# Altium footprint library Small Outline (~0.8mm Pitch).PcbLib: 19 footprints (part 1 of 2)
Each footprint in its own frame and in the unit in brackets; x right, y up, seen from the top. Pads: shape width x height; smd on the part's side, far side on the other; paste and mask are expansions set on the pad; w line width, h text height; cw(c..) or ccw(c..) is an arc to the next point about the centre after c.
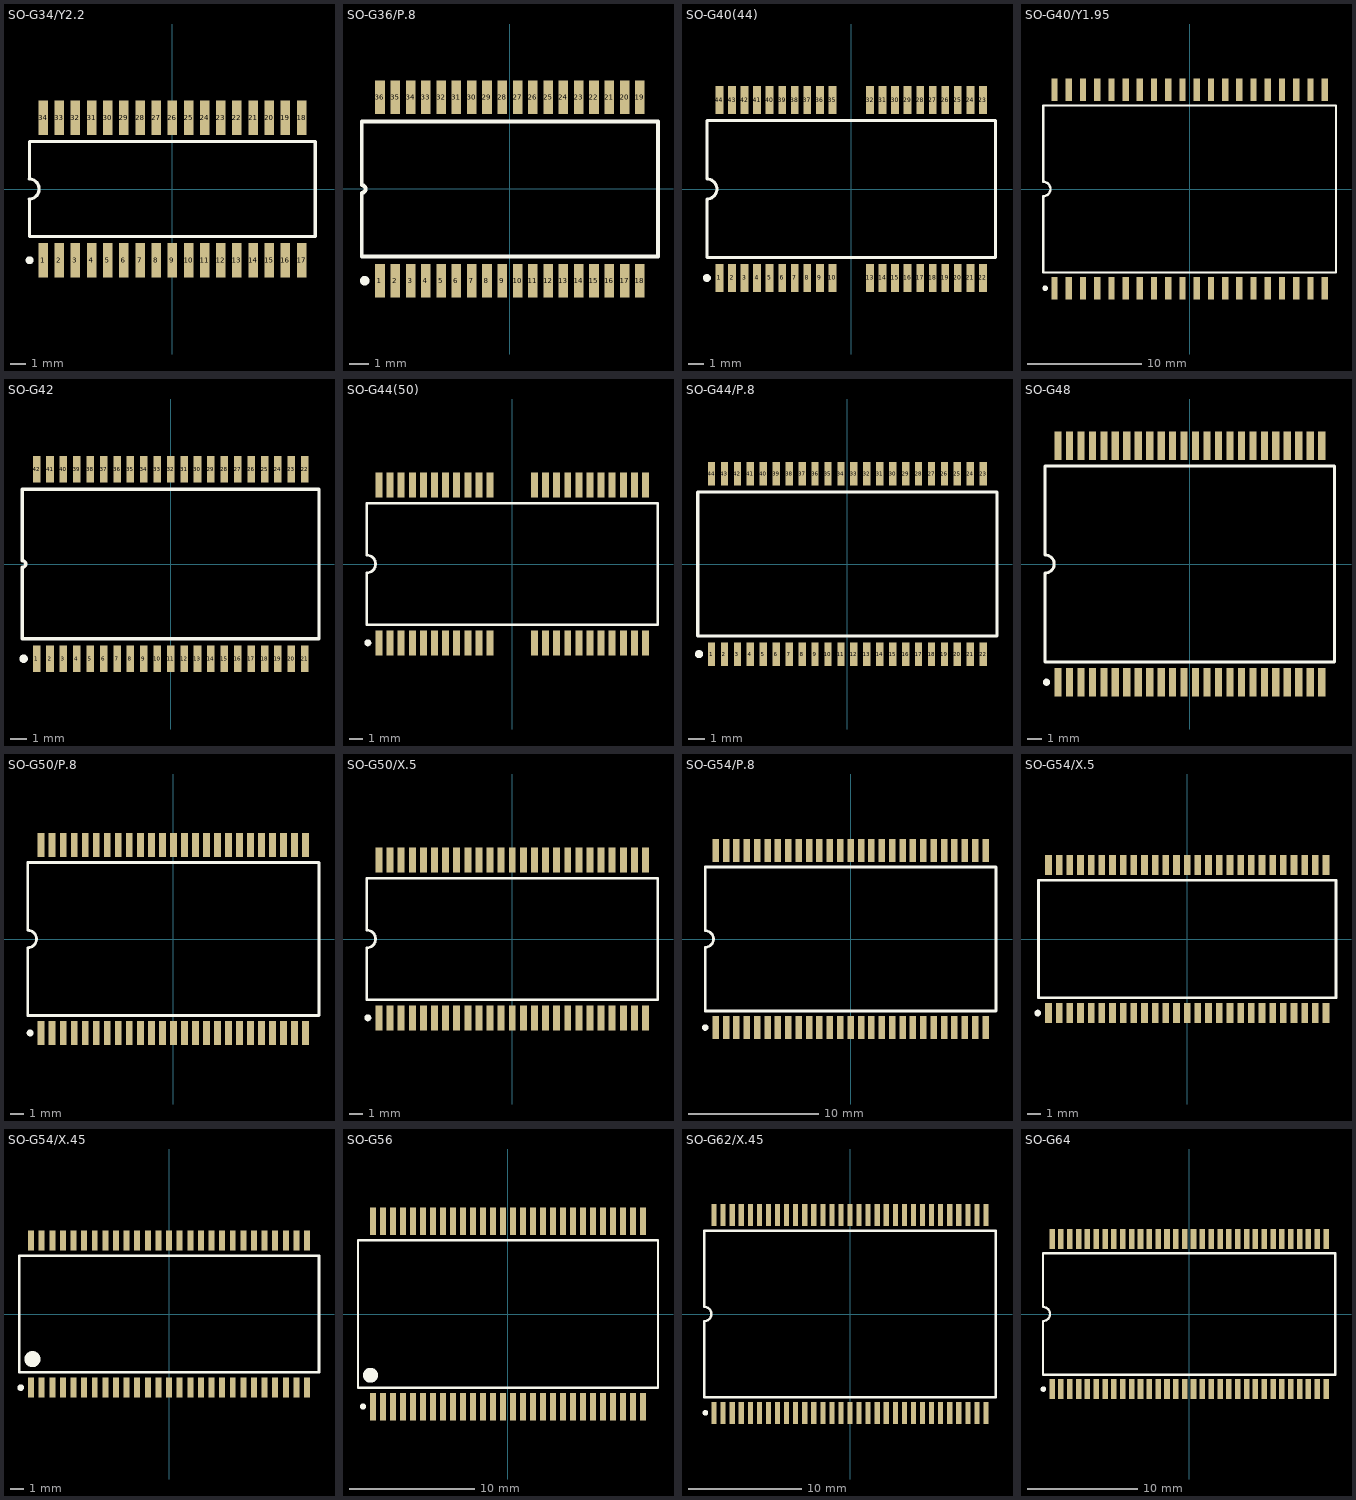
[diagram p0: the footprints below, top view; thin cyan lines are the x and y axes]

## SO-G34/Y2.2 [mm]
pads (34):
  rect 0.6x2.2 smd: 1(-8.16,-4.5) 2(-7.14,-4.5) 3(-6.12,-4.5) 4(-5.1,-4.5) 5(-4.08,-4.5) 6(-3.06,-4.5) 7(-2.04,-4.5) 8(-1.02,-4.5) 9(0,-4.5) 10(1.02,-4.5) 11(2.04,-4.5) 12(3.06,-4.5) 13(4.08,-4.5) 14(5.1,-4.5) 15(6.12,-4.5) 16(7.14,-4.5) 17(8.16,-4.5) 18(8.16,4.5) 19(7.14,4.5) 20(6.12,4.5) 21(5.1,4.5) 22(4.08,4.5) 23(3.06,4.5) 24(2.04,4.5) 25(1.02,4.5) 26(0,4.5) 27(-1.02,4.5) 28(-2.04,4.5) 29(-3.06,4.5) 30(-4.08,4.5) 31(-5.1,4.5) 32(-6.12,4.5) 33(-7.14,4.5) 34(-8.16,4.5)
Top Overlay:
  circle w0.25: c-9.01,-4.5 r0.125
  lines w0.2: -9.05,-0.635 ccw(c-9.05,0) -9.05,0.635 ; -9.025,-0.635 -9.025,-3 9.025,-3 9.025,3 -9.025,3 -9.025,0.635

## SO-G36/P.8 [mm] "Small Outline; 36 Leads; Body Width 7.5 mm; Pitch 0.8 mm"
height 2.65
pads (36):
  rect 0.5x1.75 smd: 1(-6.8,-4.8) 2(-6,-4.8) 3(-5.2,-4.8) 4(-4.4,-4.8) 5(-3.6,-4.8) 6(-2.8,-4.8) 7(-2,-4.8) 8(-1.2,-4.8) 9(-0.4,-4.8) 10(0.4,-4.8) 11(1.2,-4.8) 12(2,-4.8) 13(2.8,-4.8) 14(3.6,-4.8) 15(4.4,-4.8) 16(5.2,-4.8) 17(6,-4.8) 18(6.8,-4.8) 19(6.8,4.8) 20(6,4.8) 21(5.2,4.8) 22(4.4,4.8) 23(3.6,4.8) 24(2.8,4.8) 25(2,4.8) 26(1.2,4.8) 27(0.4,4.8) 28(-0.4,4.8) 29(-1.2,4.8) 30(-2,4.8) 31(-2.8,4.8) 32(-3.6,4.8) 33(-4.4,4.8) 34(-5.2,4.8) 35(-6,4.8) 36(-6.8,4.8)
Top Overlay:
  circle w0.25: c-7.6,-4.8 r0.125
  lines w0.2: -7.75,-3.525 7.75,-3.525 7.75,3.525 -7.75,3.525 -7.75,0.2 cw(c-7.75,0) -7.75,-0.2 -7.75,-3.525

## SO-G40(44) [mm] "Small Outline; 40 Leads; Body Width 10.16 mm; Pitch 0.8 mm"
height 1.2
pads (40):
  rect 0.5x1.8 smd: 1(-8.4,-5.675) 2(-7.6,-5.675) 3(-6.8,-5.675) 4(-6,-5.675) 5(-5.2,-5.675) 6(-4.4,-5.675) 7(-3.6,-5.675) 8(-2.8,-5.675) 9(-2,-5.675) 10(-1.2,-5.675) 13(1.2,-5.675) 14(2,-5.675) 15(2.8,-5.675) 16(3.6,-5.675) 17(4.4,-5.675) 18(5.2,-5.675) 19(6,-5.675) 20(6.8,-5.675) 21(7.6,-5.675) 22(8.4,-5.675) 23(8.4,5.675) 24(7.6,5.675) 25(6.8,5.675) 26(6,5.675) 27(5.2,5.675) 28(4.4,5.675) 29(3.6,5.675) 30(2.8,5.675) 31(2,5.675) 32(1.2,5.675) 35(-1.2,5.675) 36(-2,5.675) 37(-2.8,5.675) 38(-3.6,5.675) 39(-4.4,5.675) 40(-5.2,5.675) 41(-6,5.675) 42(-6.8,5.675) 43(-7.6,5.675) 44(-8.4,5.675)
Top Overlay:
  circle w0.25: c-9.2,-5.675 r0.125
  lines w0.2: -9.2,-4.375 -9.2,-0.635 ccw(c-9.2,0) -9.2,0.635 -9.2,4.375 9.2,4.375 9.2,-4.375 -9.2,-4.375

## SO-G40/Y1.95 [mm] "Small Outline; 40 Leads; Body Width 16 mm; Pitch 1.25 mm"
height 1.2
pads (40):
  rect 0.55x1.95 smd: 1(-11.875,-8.725) 2(-10.625,-8.725) 3(-9.375,-8.725) 4(-8.125,-8.725) 5(-6.875,-8.725) 6(-5.625,-8.725) 7(-4.375,-8.725) 8(-3.125,-8.725) 9(-1.875,-8.725) 10(-0.625,-8.725) 11(0.625,-8.725) 12(1.875,-8.725) 13(3.125,-8.725) 14(4.375,-8.725) 15(5.625,-8.725) 16(6.875,-8.725) 17(8.125,-8.725) 18(9.375,-8.725) 19(10.625,-8.725) 20(11.875,-8.725) 21(11.875,8.725) 22(10.625,8.725) 23(9.375,8.725) 24(8.125,8.725) 25(6.875,8.725) 26(5.625,8.725) 27(4.375,8.725) 28(3.125,8.725) 29(1.875,8.725) 30(0.625,8.725) 31(-0.625,8.725) 32(-1.875,8.725) 33(-3.125,8.725) 34(-4.375,8.725) 35(-5.625,8.725) 36(-6.875,8.725) 37(-8.125,8.725) 38(-9.375,8.725) 39(-10.625,8.725) 40(-11.875,8.725)
Top Overlay:
  circle w0.25: c-12.7,-8.725 r0.125
  lines w0.2: -12.875,-7.35 12.875,-7.35 12.875,7.35 -12.875,7.35 -12.875,0.635 cw(c-12.875,0) -12.875,-0.635 -12.875,-7.35

## SO-G42 [mm] "Small Outline; 42 Leads; Body Width 8.4 mm; Pitch 0.8 mm"
height 2.4
pads (42):
  rect 0.45x1.6 smd: 1(-8,-5.65) 2(-7.2,-5.65) 3(-6.4,-5.65) 4(-5.6,-5.65) 5(-4.8,-5.65) 6(-4,-5.65) 7(-3.2,-5.65) 8(-2.4,-5.65) 9(-1.6,-5.65) 10(-0.8,-5.65) 11(0,-5.65) 12(0.8,-5.65) 13(1.6,-5.65) 14(2.4,-5.65) 15(3.2,-5.65) 16(4,-5.65) 17(4.8,-5.65) 18(5.6,-5.65) 19(6.4,-5.65) 20(7.2,-5.65) 21(8,-5.65) 22(8,5.65) 23(7.2,5.65) 24(6.4,5.65) 25(5.6,5.65) 26(4.8,5.65) 27(4,5.65) 28(3.2,5.65) 29(2.4,5.65) 30(1.6,5.65) 31(0.8,5.65) 32(0,5.65) 33(-0.8,5.65) 34(-1.6,5.65) 35(-2.4,5.65) 36(-3.2,5.65) 37(-4,5.65) 38(-4.8,5.65) 39(-5.6,5.65) 40(-6.4,5.65) 41(-7.2,5.65) 42(-8,5.65)
Top Overlay:
  circle w0.25: c-8.775,-5.65 r0.125
  lines w0.2: -8.85,-4.45 -8.85,-0.2 ccw(c-8.85,0) -8.85,0.2 -8.85,4.45 8.85,4.45 8.85,-4.45 -8.85,-4.45

## SO-G44(50) [mm] "Small Outline; 44 Leads; Body Width 10.16 mm; Pitch 0.8 mm"
height 1.2
pads (44):
  rect 0.5x1.8 smd: 1(-9.6,-5.675) 2(-8.8,-5.675) 3(-8,-5.675) 4(-7.2,-5.675) 5(-6.4,-5.675) 6(-5.6,-5.675) 7(-4.8,-5.675) 8(-4,-5.675) 9(-3.2,-5.675) 10(-2.4,-5.675) 11(-1.6,-5.675) 15(1.6,-5.675) 16(2.4,-5.675) 17(3.2,-5.675) 18(4,-5.675) 19(4.8,-5.675) 20(5.6,-5.675) 21(6.4,-5.675) 22(7.2,-5.675) 23(8,-5.675) 24(8.8,-5.675) 25(9.6,-5.675) 26(9.6,5.675) 27(8.8,5.675) 28(8,5.675) 29(7.2,5.675) 30(6.4,5.675) 31(5.6,5.675) 32(4.8,5.675) 33(4,5.675) 34(3.2,5.675) 35(2.4,5.675) 36(1.6,5.675) 40(-1.6,5.675) 41(-2.4,5.675) 42(-3.2,5.675) 43(-4,5.675) 44(-4.8,5.675) 45(-5.6,5.675) 46(-6.4,5.675) 47(-7.2,5.675) 48(-8,5.675) 49(-8.8,5.675) 50(-9.6,5.675)
Top Overlay:
  circle w0.25: c-10.4,-5.675 r0.125
  lines w0.2: -10.475,-4.375 10.475,-4.375 10.475,4.375 -10.475,4.375 -10.475,0.635 cw(c-10.475,0) -10.475,-0.635 -10.475,-4.375

## SO-G44/P.8 [mm] "Small Outline; 44 Leads; Body Width 10.16 mm; Pitch 0.8 mm"
height 1.2
pads (44):
  rect 0.45x1.45 smd: 1(-8.4,-5.575) 2(-7.6,-5.575) 3(-6.8,-5.575) 4(-6,-5.575) 5(-5.2,-5.575) 6(-4.4,-5.575) 7(-3.6,-5.575) 8(-2.8,-5.575) 9(-2,-5.575) 10(-1.2,-5.575) 11(-0.4,-5.575) 12(0.4,-5.575) 13(1.2,-5.575) 14(2,-5.575) 15(2.8,-5.575) 16(3.6,-5.575) 17(4.4,-5.575) 18(5.2,-5.575) 19(6,-5.575) 20(6.8,-5.575) 21(7.6,-5.575) 22(8.4,-5.575) 23(8.4,5.575) 24(7.6,5.575) 25(6.8,5.575) 26(6,5.575) 27(5.2,5.575) 28(4.4,5.575) 29(3.6,5.575) 30(2.8,5.575) 31(2,5.575) 32(1.2,5.575) 33(0.4,5.575) 34(-0.4,5.575) 35(-1.2,5.575) 36(-2,5.575) 37(-2.8,5.575) 38(-3.6,5.575) 39(-4.4,5.575) 40(-5.2,5.575) 41(-6,5.575) 42(-6.8,5.575) 43(-7.6,5.575) 44(-8.4,5.575)
Top Overlay:
  circle w0.25: c-9.175,-5.575 r0.125
  lines w0.2: -9.25,-4.45 -9.25,-0.635 -9.25,4.45 9.25,4.45 9.25,-4.45 -9.25,-4.45

## SO-G48 [mm] "Small Outline; 48 Leads; Body Width 14 mm; Pitch 0.8 mm"
height 2.3
pads (48):
  rect 0.5x2 smd: 1(-9.2,-8.25) 2(-8.4,-8.25) 3(-7.6,-8.25) 4(-6.8,-8.25) 5(-6,-8.25) 6(-5.2,-8.25) 7(-4.4,-8.25) 8(-3.6,-8.25) 9(-2.8,-8.25) 10(-2,-8.25) 11(-1.2,-8.25) 12(-0.4,-8.25) 13(0.4,-8.25) 14(1.2,-8.25) 15(2,-8.25) 16(2.8,-8.25) 17(3.6,-8.25) 18(4.4,-8.25) 19(5.2,-8.25) 20(6,-8.25) 21(6.8,-8.25) 22(7.6,-8.25) 23(8.4,-8.25) 24(9.2,-8.25) 25(9.2,8.25) 26(8.4,8.25) 27(7.6,8.25) 28(6.8,8.25) 29(6,8.25) 30(5.2,8.25) 31(4.4,8.25) 32(3.6,8.25) 33(2.8,8.25) 34(2,8.25) 35(1.2,8.25) 36(0.4,8.25) 37(-0.4,8.25) 38(-1.2,8.25) 39(-2,8.25) 40(-2.8,8.25) 41(-3.6,8.25) 42(-4.4,8.25) 43(-5.2,8.25) 44(-6,8.25) 45(-6.8,8.25) 46(-7.6,8.25) 47(-8.4,8.25) 48(-9.2,8.25)
Top Overlay:
  circle w0.25: c-10,-8.25 r0.125
  lines w0.2: -10.1,-6.85 -10.1,-0.635 ccw(c-10.1,0) -10.1,0.635 -10.1,6.85 10.1,6.85 10.1,-6.85 -10.1,-6.85

## SO-G50/P.8 [mm] "Small Outline; 50 Leads; Body Width 12.7 mm; Pitch 0.8 mm"
height 1.2
pads (50):
  rect 0.5x1.75 smd: 1(-9.6,-6.825) 2(-8.8,-6.825) 3(-8,-6.825) 4(-7.2,-6.825) 5(-6.4,-6.825) 6(-5.6,-6.825) 7(-4.8,-6.825) 8(-4,-6.825) 9(-3.2,-6.825) 10(-2.4,-6.825) 11(-1.6,-6.825) 12(-0.8,-6.825) 13(0,-6.825) 14(0.8,-6.825) 15(1.6,-6.825) 16(2.4,-6.825) 17(3.2,-6.825) 18(4,-6.825) 19(4.8,-6.825) 20(5.6,-6.825) 21(6.4,-6.825) 22(7.2,-6.825) 23(8,-6.825) 24(8.8,-6.825) 25(9.6,-6.825) 26(9.6,6.825) 27(8.8,6.825) 28(8,6.825) 29(7.2,6.825) 30(6.4,6.825) 31(5.6,6.825) 32(4.8,6.825) 33(4,6.825) 34(3.2,6.825) 35(2.4,6.825) 36(1.6,6.825) 37(0.8,6.825) 38(0,6.825) 39(-0.8,6.825) 40(-1.6,6.825) 41(-2.4,6.825) 42(-3.2,6.825) 43(-4,6.825) 44(-4.8,6.825) 45(-5.6,6.825) 46(-6.4,6.825) 47(-7.2,6.825) 48(-8,6.825) 49(-8.8,6.825) 50(-9.6,6.825)
Top Overlay:
  circle w0.25: c-10.4,-6.825 r0.125
  lines w0.2: -10.575,-5.55 -10.575,-0.635 ccw(c-10.575,0) -10.575,0.635 -10.575,5.55 10.575,5.55 10.575,-5.55 -10.575,-5.55

## SO-G50/X.5 [mm] "Small Outline; 50 Leads; Body Width 10.16 mm; Pitch 0.8 mm"
height 1.2
pads (50):
  rect 0.5x1.8 smd: 1(-9.6,-5.675) 2(-8.8,-5.675) 3(-8,-5.675) 4(-7.2,-5.675) 5(-6.4,-5.675) 6(-5.6,-5.675) 7(-4.8,-5.675) 8(-4,-5.675) 9(-3.2,-5.675) 10(-2.4,-5.675) 11(-1.6,-5.675) 12(-0.8,-5.675) 13(0,-5.675) 14(0.8,-5.675) 15(1.6,-5.675) 16(2.4,-5.675) 17(3.2,-5.675) 18(4,-5.675) 19(4.8,-5.675) 20(5.6,-5.675) 21(6.4,-5.675) 22(7.2,-5.675) 23(8,-5.675) 24(8.8,-5.675) 25(9.6,-5.675) 26(9.6,5.675) 27(8.8,5.675) 28(8,5.675) 29(7.2,5.675) 30(6.4,5.675) 31(5.6,5.675) 32(4.8,5.675) 33(4,5.675) 34(3.2,5.675) 35(2.4,5.675) 36(1.6,5.675) 37(0.8,5.675) 38(0,5.675) 39(-0.8,5.675) 40(-1.6,5.675) 41(-2.4,5.675) 42(-3.2,5.675) 43(-4,5.675) 44(-4.8,5.675) 45(-5.6,5.675) 46(-6.4,5.675) 47(-7.2,5.675) 48(-8,5.675) 49(-8.8,5.675) 50(-9.6,5.675)
Top Overlay:
  circle w0.25: c-10.4,-5.675 r0.125
  lines w0.2: -10.475,-4.375 10.475,-4.375 10.475,4.375 -10.475,4.375 -10.475,0.635 cw(c-10.475,0) -10.475,-0.635 -10.475,-4.375

## SO-G54/P.8 [mm] "Small Outline; 54 Leads; Body Width 12.7 mm; Pitch 0.8 mm"
height 1.2
pads (54):
  rect 0.5x1.75 smd: 1(-10.4,-6.825) 2(-9.6,-6.825) 3(-8.8,-6.825) 4(-8,-6.825) 5(-7.2,-6.825) 6(-6.4,-6.825) 7(-5.6,-6.825) 8(-4.8,-6.825) 9(-4,-6.825) 10(-3.2,-6.825) 11(-2.4,-6.825) 12(-1.6,-6.825) 13(-0.8,-6.825) 14(0,-6.825) 15(0.8,-6.825) 16(1.6,-6.825) 17(2.4,-6.825) 18(3.2,-6.825) 19(4,-6.825) 20(4.8,-6.825) 21(5.6,-6.825) 22(6.4,-6.825) 23(7.2,-6.825) 24(8,-6.825) 25(8.8,-6.825) 26(9.6,-6.825) 27(10.4,-6.825) 28(10.4,6.825) 29(9.6,6.825) 30(8.8,6.825) 31(8,6.825) 32(7.2,6.825) 33(6.4,6.825) 34(5.6,6.825) 35(4.8,6.825) 36(4,6.825) 37(3.2,6.825) 38(2.4,6.825) 39(1.6,6.825) 40(0.8,6.825) 41(0,6.825) 42(-0.8,6.825) 43(-1.6,6.825) 44(-2.4,6.825) 45(-3.2,6.825) 46(-4,6.825) 47(-4.8,6.825) 48(-5.6,6.825) 49(-6.4,6.825) 50(-7.2,6.825) 51(-8,6.825) 52(-8.8,6.825) 53(-9.6,6.825) 54(-10.4,6.825)
Top Overlay:
  circle w0.25: c-11.2,-6.825 r0.125
  lines w0.2: -11.2,-5.55 11.2,-5.55 11.2,5.55 -11.2,5.55 -11.2,0.635 cw(c-11.2,0) -11.2,-0.635 -11.2,-5.55

## SO-G54/X.5 [mm] "Small Outline, Plastic; 54 Leads; Body Width 10.16 mm"
height 1.2
pads (54):
  rect 0.5x1.5 smd: 1(-10.4,-5.55) 2(-9.6,-5.55) 3(-8.8,-5.55) 4(-8,-5.55) 5(-7.2,-5.55) 6(-6.4,-5.55) 7(-5.6,-5.55) 8(-4.8,-5.55) 9(-4,-5.55) 10(-3.2,-5.55) 11(-2.4,-5.55) 12(-1.6,-5.55) 13(-0.8,-5.55) 14(0,-5.55) 15(0.8,-5.55) 16(1.6,-5.55) 17(2.4,-5.55) 18(3.2,-5.55) 19(4,-5.55) 20(4.8,-5.55) 21(5.6,-5.55) 22(6.4,-5.55) 23(7.2,-5.55) 24(8,-5.55) 25(8.8,-5.55) 26(9.6,-5.55) 27(10.4,-5.55) 28(10.4,5.55) 29(9.6,5.55) 30(8.8,5.55) 31(8,5.55) 32(7.2,5.55) 33(6.4,5.55) 34(5.6,5.55) 35(4.8,5.55) 36(4,5.55) 37(3.2,5.55) 38(2.4,5.55) 39(1.6,5.55) 40(0.8,5.55) 41(0,5.55) 42(-0.8,5.55) 43(-1.6,5.55) 44(-2.4,5.55) 45(-3.2,5.55) 46(-4,5.55) 47(-4.8,5.55) 48(-5.6,5.55) 49(-6.4,5.55) 50(-7.2,5.55) 51(-8,5.55) 52(-8.8,5.55) 53(-9.6,5.55) 54(-10.4,5.55)
Top Overlay:
  circle w0.25: c-11.21,-5.55 r0.125
  lines w0.2: -11.15,-4.4 11.15,-4.4 11.15,4.4 -11.15,4.4 -11.15,-0.635 -11.15,-4.4

## SO-G54/X.45 [mm] "Small Outline; 54 Leads; Body Width 10.16 mm; Pitch 0.8 mm"
height 1.2
pads (54):
  rect 0.45x1.5 smd: 1(-10.4,-5.55) 2(-9.6,-5.55) 3(-8.8,-5.55) 4(-8,-5.55) 5(-7.2,-5.55) 6(-6.4,-5.55) 7(-5.6,-5.55) 8(-4.8,-5.55) 9(-4,-5.55) 10(-3.2,-5.55) 11(-2.4,-5.55) 12(-1.6,-5.55) 13(-0.8,-5.55) 14(0,-5.55) 15(0.8,-5.55) 16(1.6,-5.55) 17(2.4,-5.55) 18(3.2,-5.55) 19(4,-5.55) 20(4.8,-5.55) 21(5.6,-5.55) 22(6.4,-5.55) 23(7.2,-5.55) 24(8,-5.55) 25(8.8,-5.55) 26(9.6,-5.55) 27(10.4,-5.55) 28(10.4,5.55) 29(9.6,5.55) 30(8.8,5.55) 31(8,5.55) 32(7.2,5.55) 33(6.4,5.55) 34(5.6,5.55) 35(4.8,5.55) 36(4,5.55) 37(3.2,5.55) 38(2.4,5.55) 39(1.6,5.55) 40(0.8,5.55) 41(0,5.55) 42(-0.8,5.55) 43(-1.6,5.55) 44(-2.4,5.55) 45(-3.2,5.55) 46(-4,5.55) 47(-4.8,5.55) 48(-5.6,5.55) 49(-6.4,5.55) 50(-7.2,5.55) 51(-8,5.55) 52(-8.8,5.55) 53(-9.6,5.55) 54(-10.4,5.55)
Top Overlay:
  circle w0.6: c-10.3,-3.4 r0.3
  circle w0.25: c-11.185,-5.55 r0.125
  lines w0.2: -11.3,-4.4 11.3,-4.4 11.3,4.4 -11.3,4.4 -11.3,-0.635 -11.3,-4.4

## SO-G56 [mm] "Small Outline; 56 Leads; Body Width 13.3 mm; Pitch 0.8 mm"
height 2
pads (56):
  rect 0.5x2.2 smd: 1(-10.8,-7.4) 2(-10,-7.4) 3(-9.2,-7.4) 4(-8.4,-7.4) 5(-7.6,-7.4) 6(-6.8,-7.4) 7(-6,-7.4) 8(-5.2,-7.4) 9(-4.4,-7.4) 10(-3.6,-7.4) 11(-2.8,-7.4) 12(-2,-7.4) 13(-1.2,-7.4) 14(-0.4,-7.4) 15(0.4,-7.4) 16(1.2,-7.4) 17(2,-7.4) 18(2.8,-7.4) 19(3.6,-7.4) 20(4.4,-7.4) 21(5.2,-7.4) 22(6,-7.4) 23(6.8,-7.4) 24(7.6,-7.4) 25(8.4,-7.4) 26(9.2,-7.4) 27(10,-7.4) 28(10.8,-7.4) 29(10.8,7.4) 30(10,7.4) 31(9.2,7.4) 32(8.4,7.4) 33(7.6,7.4) 34(6.8,7.4) 35(6,7.4) 36(5.2,7.4) 37(4.4,7.4) 38(3.6,7.4) 39(2.8,7.4) 40(2,7.4) 41(1.2,7.4) 42(0.4,7.4) 43(-0.4,7.4) 44(-1.2,7.4) 45(-2,7.4) 46(-2.8,7.4) 47(-3.6,7.4) 48(-4.4,7.4) 49(-5.2,7.4) 50(-6,7.4) 51(-6.8,7.4) 52(-7.6,7.4) 53(-8.4,7.4) 54(-9.2,7.4) 55(-10,7.4) 56(-10.8,7.4)
Top Overlay:
  circle w0.6: c-11,-4.9 r0.3
  circle w0.25: c-11.6,-7.4 r0.125
  lines w0.2: -12,-5.9 12,-5.9 12,5.9 -12,5.9 -12,-0.635 -12,-5.9

## SO-G62/X.45 [mm] "Small Outline; 62 Leads; Body Width 16 mm; Pitch 0.8 mm"
height 1.2
pads (62):
  rect 0.45x1.95 smd: 1(-12,-8.725) 2(-11.2,-8.725) 3(-10.4,-8.725) 4(-9.6,-8.725) 5(-8.8,-8.725) 6(-8,-8.725) 7(-7.2,-8.725) 8(-6.4,-8.725) 9(-5.6,-8.725) 10(-4.8,-8.725) 11(-4,-8.725) 12(-3.2,-8.725) 13(-2.4,-8.725) 14(-1.6,-8.725) 15(-0.8,-8.725) 16(0,-8.725) 17(0.8,-8.725) 18(1.6,-8.725) 19(2.4,-8.725) 20(3.2,-8.725) 21(4,-8.725) 22(4.8,-8.725) 23(5.6,-8.725) 24(6.4,-8.725) 25(7.2,-8.725) 26(8,-8.725) 27(8.8,-8.725) 28(9.6,-8.725) 29(10.4,-8.725) 30(11.2,-8.725) 31(12,-8.725) 32(12,8.725) 33(11.2,8.725) 34(10.4,8.725) 35(9.6,8.725) 36(8.8,8.725) 37(8,8.725) 38(7.2,8.725) 39(6.4,8.725) 40(5.6,8.725) 41(4.8,8.725) 42(4,8.725) 43(3.2,8.725) 44(2.4,8.725) 45(1.6,8.725) 46(0.8,8.725) 47(0,8.725) 48(-0.8,8.725) 49(-1.6,8.725) 50(-2.4,8.725) 51(-3.2,8.725) 52(-4,8.725) 53(-4.8,8.725) 54(-5.6,8.725) 55(-6.4,8.725) 56(-7.2,8.725) 57(-8,8.725) 58(-8.8,8.725) 59(-9.6,8.725) 60(-10.4,8.725) 61(-11.2,8.725) 62(-12,8.725)
Top Overlay:
  circle w0.25: c-12.775,-8.725 r0.125
  lines w0.2: -12.875,-7.35 -12.875,-0.635 ccw(c-12.875,0) -12.875,0.635 -12.875,7.35 12.875,7.35 12.875,-7.35 -12.875,-7.35

## SO-G64 [mm] "Small Outline; 64 Leads; Body Width 12 mm; Pitch 0.8 mm"
height 2.38
pads (64):
  rect 0.5x1.8 smd: 1(-12.4,-6.8) 2(-11.6,-6.8) 3(-10.8,-6.8) 4(-10,-6.8) 5(-9.2,-6.8) 6(-8.4,-6.8) 7(-7.6,-6.8) 8(-6.8,-6.8) 9(-6,-6.8) 10(-5.2,-6.8) 11(-4.4,-6.8) 12(-3.6,-6.8) 13(-2.8,-6.8) 14(-2,-6.8) 15(-1.2,-6.8) 16(-0.4,-6.8) 17(0.4,-6.8) 18(1.2,-6.8) 19(2,-6.8) 20(2.8,-6.8) 21(3.6,-6.8) 22(4.4,-6.8) 23(5.2,-6.8) 24(6,-6.8) 25(6.8,-6.8) 26(7.6,-6.8) 27(8.4,-6.8) 28(9.2,-6.8) 29(10,-6.8) 30(10.8,-6.8) 31(11.6,-6.8) 32(12.4,-6.8) 33(12.4,6.8) 34(11.6,6.8) 35(10.8,6.8) 36(10,6.8) 37(9.2,6.8) 38(8.4,6.8) 39(7.6,6.8) 40(6.8,6.8) 41(6,6.8) 42(5.2,6.8) 43(4.4,6.8) 44(3.6,6.8) 45(2.8,6.8) 46(2,6.8) 47(1.2,6.8) 48(0.4,6.8) 49(-0.4,6.8) 50(-1.2,6.8) 51(-2,6.8) 52(-2.8,6.8) 53(-3.6,6.8) 54(-4.4,6.8) 55(-5.2,6.8) 56(-6,6.8) 57(-6.8,6.8) 58(-7.6,6.8) 59(-8.4,6.8) 60(-9.2,6.8) 61(-10,6.8) 62(-10.8,6.8) 63(-11.6,6.8) 64(-12.4,6.8)
Top Overlay:
  circle w0.25: c-13.2,-6.8 r0.125
  lines w0.2: -13.225,-5.5 13.225,-5.5 13.225,5.5 -13.225,5.5 -13.225,0.635 cw(c-13.225,0) -13.225,-0.635 -13.225,-5.5